# Altium schematic symbol library Relays.SCHLIB: 2 symbols
Pins are listed as number, name and electrical type; pins without a type are passive.

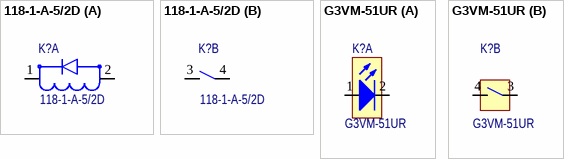
[diagram p0: symbols 118-1-A-5/2D to G3VM-51UR]

## 118-1-A-5/2D
designator K?
Relay, 1 Form A, Single Contact, NO, 0.5-1.0A, 200V, Through Hole; Manufacturer: Pickering Electronics; ComponentLink1Description: Supplier Info; ComponentLink1URL: http://www.pickeringrelay.com/; ComponentLink2Description: Datasheet; ComponentLink2URL: https://www.pickeringrelay.com/products/single-line-sil-series-111-119/single-line-sil-series-118/; Manufacturer Part Number: 118-1-A-5/2D; Supplier 1: Pickering Electronics; Supplier Part Number 1: 118-1-A-5/2D; Value: 118-1-A-5/2D
footprint 118-1-A-5/2D (ATE Relay (NO))
part A pins: 1 COIL_PLUS, 2 COIL_MIN
part B pins: 3 NO, 4 COMMON
1 alternate drawing of the same symbol

## G3VM-51UR
designator K?, comment value G3VM-51UR  (hidden comment: G3VM-51UR(TR05))
Relay; SSR; SPST-NO; Rdson=1.5Ohm; 300mA; 0-50V; VSON4; Manufacturer: Omron Electronics; Supplier 1: DigiKey; Supplier Part Number 1: Z4385TR-ND; ComponentLink1Description: Supplier Info; ComponentLink1URL: https://www.digikey.com/en/products/detail/omron-electronics-inc-emc-div/G3VM-51UR-TR05/5039690?cur=EUR&lang=en; ComponentLink2Description: Datasheet; ComponentLink2URL: https://omronfs.omron.com/en_US/ecb/products/pdf/g3vm_41ur10_51ur.pdf; Manufacturer Part Number: G3VM-51UR(TR05)
footprint VSON4 (Very Small Outline Non-leaded 4 terminals)
part A pins: 1 A, 2 K
part B pins: 3 COMMON, 4 NO